# Altium schematic symbol library sch-ru.SchLib: 32 symbols
Pins are listed as number, name and electrical type; pins without a type are passive.

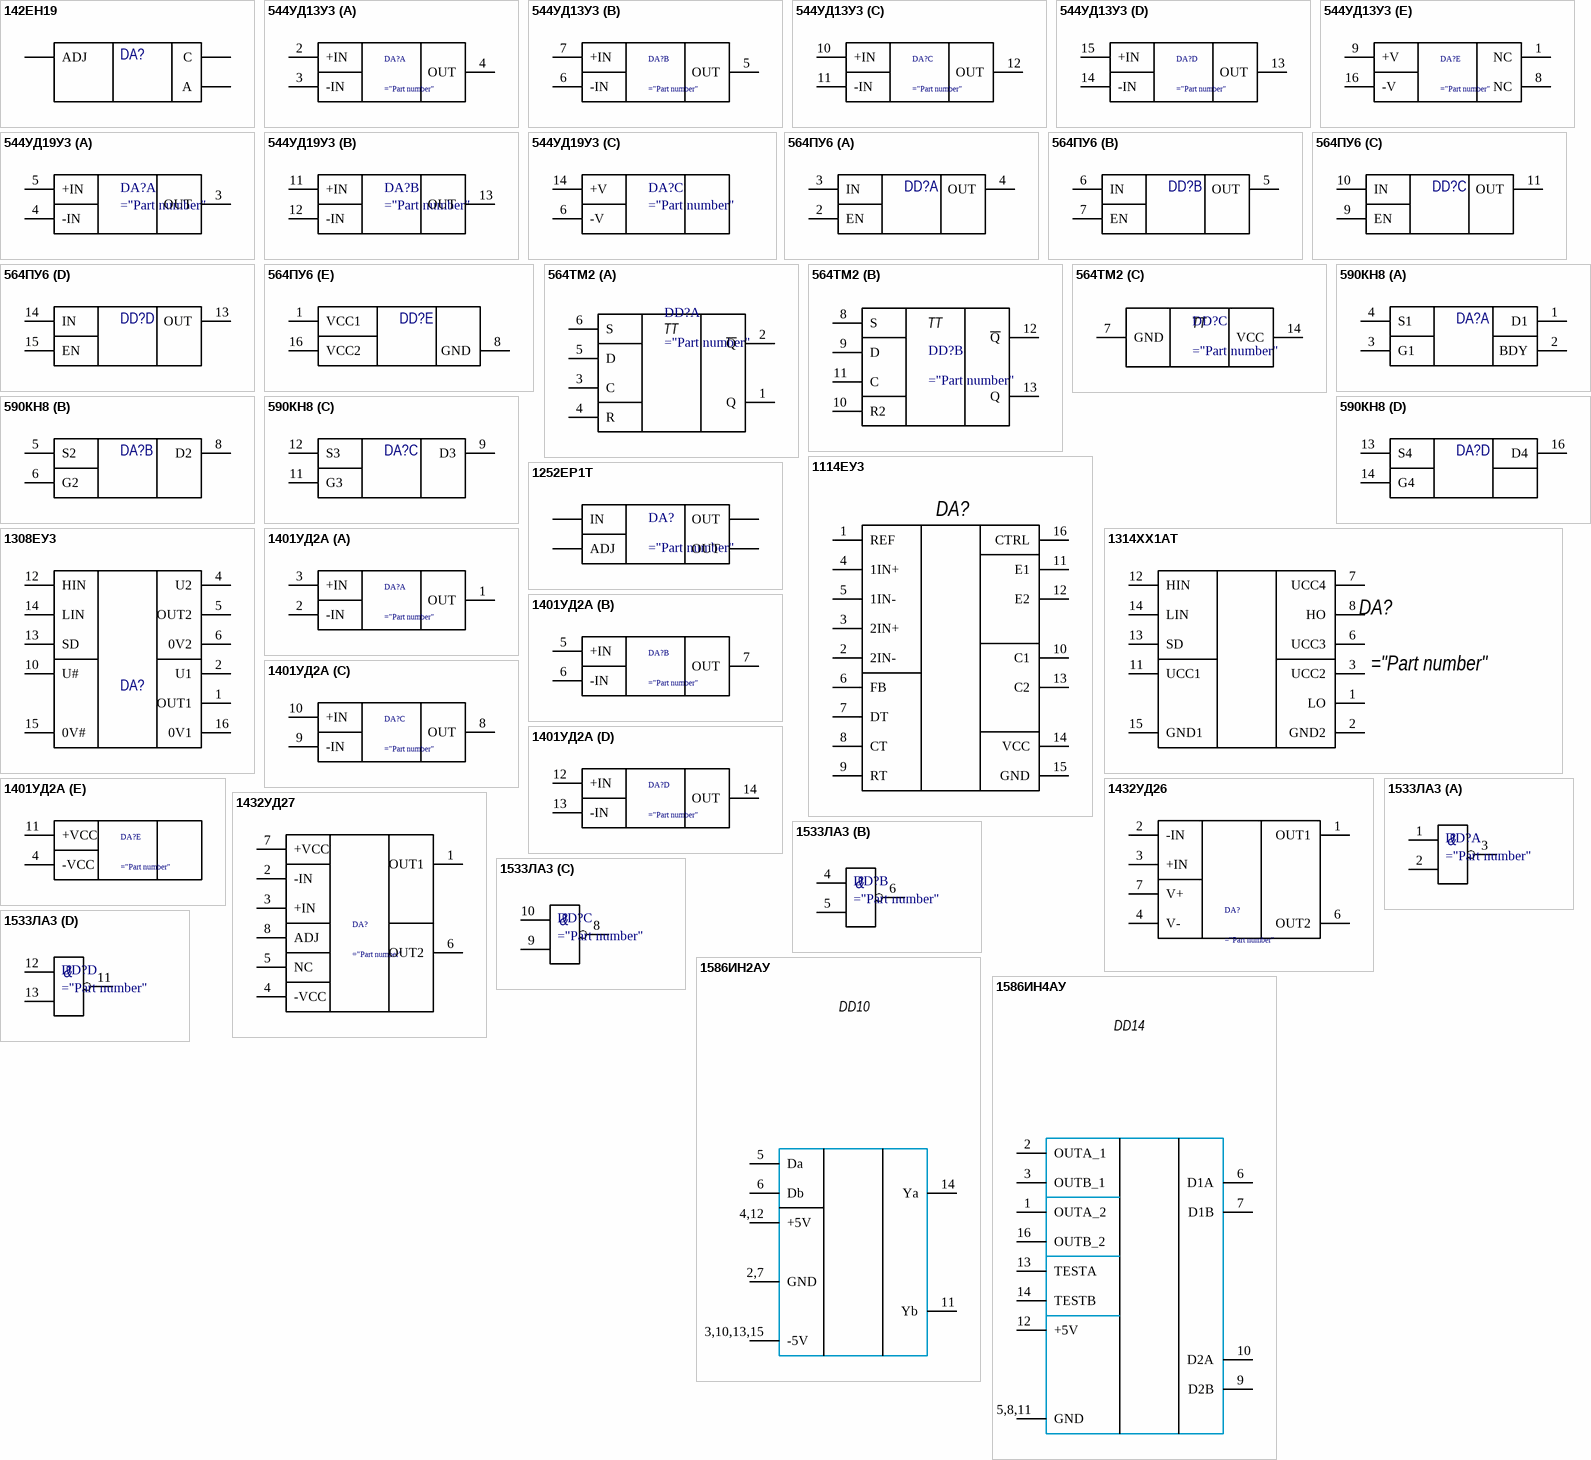
[diagram p0: symbols 142ЕН19 to 1586ИН4АУ]

## 142ЕН19
designator DA?
pins: A, ADJ, K C

## 544УД13У3
designator DA?
part A pins: 2 +IN, 3 -IN, 4 OUT
part B pins: 5 OUT, 6 -IN, 7 +IN
part C pins: 10 +IN, 11 -IN, 12 OUT
part D pins: 13 OUT, 14 -IN, 15 +IN
part E pins: 1 NC, 8 NC, 9 +V, 16 -V

## 544УД19У3
designator DA?
part A pins: 3 OUT, 4 -IN, 5 +IN
part B pins: 11 +IN, 12 -IN, 13 OUT
part C pins: 6 -V, 14 +V

## 564ПУ6
designator DD?
part A pins: 2 EN, 3 IN, 4 OUT
part B pins: 5 OUT, 6 IN, 7 EN
part C pins: 9 EN, 10 IN, 11 OUT
part D pins: 13 OUT, 14 IN, 15 EN
part E pins: 1 VCC1 , 8 GND, 16 VCC2 

## 564ТМ2
designator DD?
part A pins: 1 Q, 2 ~{Q}, 3 C, 4 R, 5 D, 6 S
part B pins: 8 S, 9 D, 10 R2, 11 C, 12 ~{Q}, 13 Q
part C pins: 7 GND, 14 VCC
part A text: TT
part B text: TT
part C text: TT

## 590КН8
designator DA?
part A pins: 1 D1, 2 BDY, 3 G1, 4 S1
part B pins: 5 S2, 6 G2, 8 D2
part C pins: 9 D3, 11 G3, 12 S3
part D pins: 13 S4, 14 G4, 16 D4

## 1114ЕУ3
designator DA?
pins: 1 REF, 2 2IN-, 3 2IN+, 4 1IN+, 5 1IN-, 6 FB, 7 DT, 8 CT, 9 RT, 10 C1, 11 E1, 12 E2, 13 C2, 14 VCC, 15 GND, 16 CTRL

## 1252ЕР1Т
designator DA?
pins: 2 IN, 8 OUT, 11 OUT, 17 ADJ

## 1308ЕУ3
designator DA?
pins: 1 OUT1, 2 U1, 4 U2, 5 OUT2, 6 0V2, 10 U#, 12 HIN, 13 SD, 14 LIN, 15 0V#, 16 0V1

## 1314ХХ1АТ
designator DA?
pins: 1 LO, 2 GND2, 3 UCC2, 6 UCC3, 7 UCC4, 8 HO, 11 UCC1, 12 HIN, 13 SD, 14 LIN, 15 GND1

## 1401УД2А
designator DA?
part A pins: 1 OUT, 2 -IN, 3 +IN
part B pins: 5 +IN, 6 -IN, 7 OUT
part C pins: 8 OUT, 9 -IN, 10 +IN
part D pins: 12 +IN, 13 -IN, 14 OUT
part E pins: 4 -VCC, 11 +VCC

## 1432УД26
designator DA?
pins: 1 OUT1, 2 -IN, 3 +IN, 4 V-, 6 OUT2, 7 V+

## 1432УД27
designator DA?
pins: 1 OUT1, 2 -IN, 3 +IN, 4 -VCC, 5 NC, 6 OUT2, 7 +VCC, 8 ADJ

## 1533ЛА3
designator DD?
part A pins: 1 IN1, 2 IN2, 3 IN3
part B pins: 4 IN1, 5 IN2, 6 IN3
part C pins: 8 IN3, 9 IN2, 10 IN1
part D pins: 7 GND (power) hidden to GND, 11 IN3, 12 IN1, 13 IN2, 14 VCC hidden to +5V
part A text: &
part B text: &
part C text: &
part D text: &

## 1586ИН2АУ
designator DD10
footprint 5119.16-А
pins: 2,7 GND, 3,10,13,15 -5V, 4,12 +5V, 5 Da, 6 Db, 11 Yb, 14 Ya

## 1586ИН4АУ
designator DD14
pins: 1 OUTA_2, 2 OUTA_1, 3 OUTB_1, 5,8,11 GND, 6 D1A, 7 D1B, 9 D2B, 10 D2A, 12 +5V, 13 TESTA, 14 TESTB, 16 OUTB_2

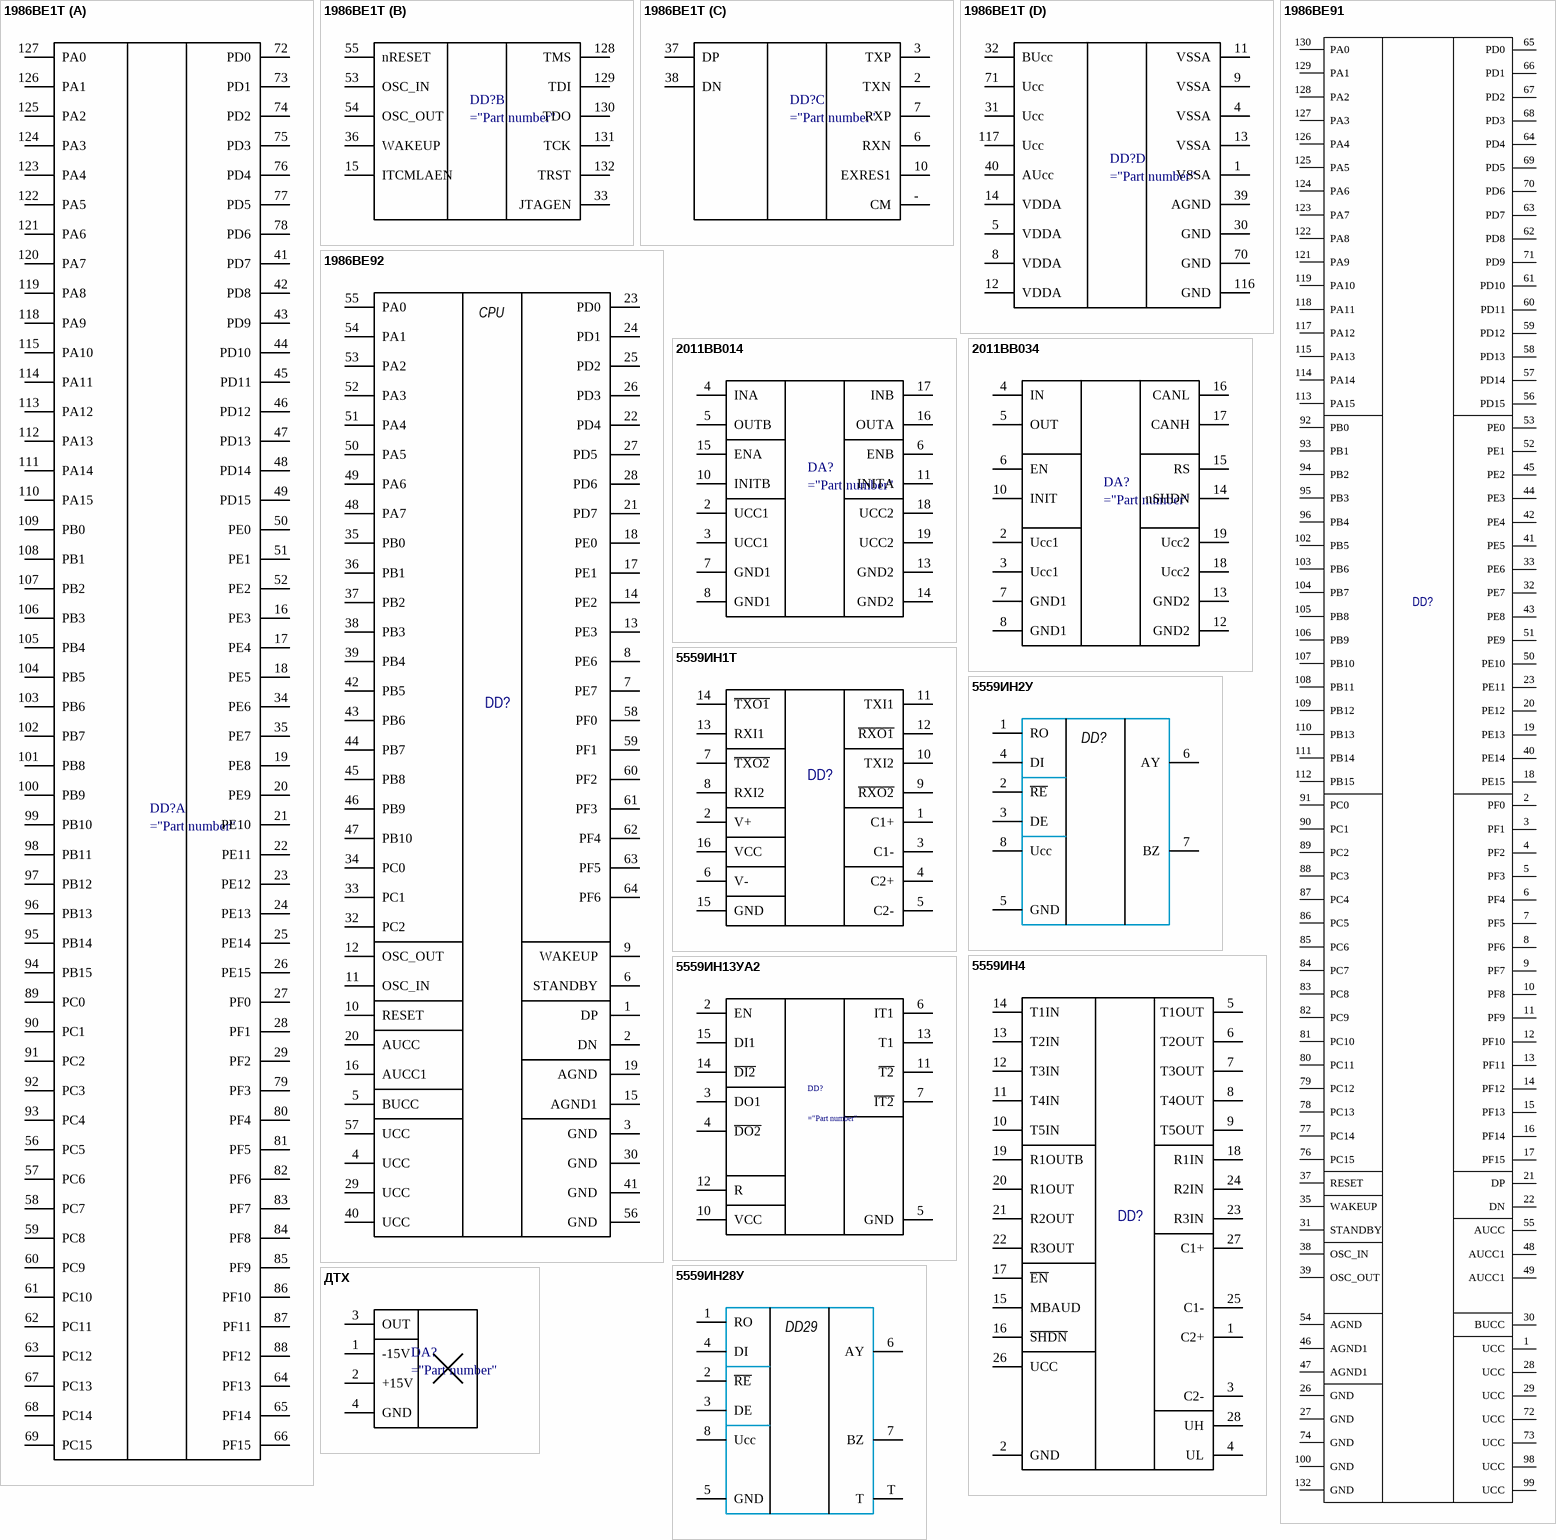
[diagram p1: symbols 1986ВЕ1Т to ДТХ]

## 1986ВЕ1Т
designator DD?
part A pins: 16 PE3, 17 PE4, 18 PE5, 19 PE8, 20 PE9, 21 PE10, 22 PE11, 23 PE12, 24 PE13, 25 PE14, 26 PE15, 27 PF0, 28 PF1, 29 PF2, 34 PE6, 35 PE7, 41 PD7, 42 PD8, 43 PD9, 44 PD10, 45 PD11, 46 PD12, 47 PD13, 48 PD14, 49 PD15, 50 PE0, 51 PE1, 52 PE2, 56 PC5, 57 PC6, 58 PC7, 59 PC8, 60 PC9, 61 PC10, 62 PC11, 63 PC12, 64 PF13, 65 PF14, 66 PF15, 67 PC13, 68 PC14, 69 PC15, 72 PD0, 73 PD1, 74 PD2, 75 PD3, 76 PD4, 77 PD5, 78 PD6, 79 PF3, 80 PF4, 81 PF5, 82 PF6, 83 PF7, 84 PF8, 85 PF9, 86 PF10, 87 PF11, 88 PF12, 89 PC0, 90 PC1, 91 PC2, 92 PC3, 93 PC4, 94 PB15, 95 PB14, 96 PB13, 97 PB12, 98 PB11, 99 PB10, 100 PB9, 101 PB8, 102 PB7, 103 PB6, 104 PB5, 105 PB4, 106 PB3, 107 PB2, 108 PB1, 109 PB0, 110 PA15, 111 PA14, 112 PA13, 113 PA12, 114 PA11, 115 PA10, 118 PA9, 119 PA8, 120 PA7, 121 PA6, 122 PA5, 123 PA4, 124 PA3, 125 PA2, 126 PA1, 127 PA0
part B pins: 15 ITCMLAEN, 33 JTAGEN, 36 WAKEUP, 53 OSC_IN, 54 OSC_OUT, 55 nRESET, 128 TMS, 129 TDI, 130 TDO, 131 TCK, 132 TRST
part C pins: 2 TXN, 3 TXP, 6 RXN, 7 RXP, 10 EXRES1, 37 DP, 38 DN, - CM
part D pins: 1 VSSA, 4 VSSA, 5 VDDA, 8 VDDA, 9 VSSA, 11 VSSA, 12 VDDA, 13 VSSA, 14 VDDA, 30 GND, 31 Ucc, 32 BUcc, 39 AGND, 40 AUcc, 70 GND, 71 Ucc, 116 GND, 117 Ucc
1 alternate drawing of the same symbol

## 1986ВЕ91
designator DD?
pins: 1 UCC, 2 PF0, 3 PF1, 4 PF2, 5 PF3, 6 PF4, 7 PF5, 8 PF6, 9 PF7, 10 PF8, 11 PF9, 12 PF10, 13 PF11, 14 PF12, 15 PF13, 16 PF14, 17 PF15, 18 PE15, 19 PE13, 20 PE12, 21 DP, 22 DN, 23 PE11, 26 GND, 27 GND, 28 UCC, 29 UCC, 30 BUCC, 31 STANDBY, 32 PE7, 33 PE6, 35 WAKEUP, 37 RESET, 38 OSC_IN, 39 OSC_OUT, 40 PE14, 41 PE5, 42 PE4, 43 PE8, 44 PE3, 45 PE2, 46 AGND1, 47 AGND1, 48 AUCC1, 49 AUCC1, 50 PE10, 51 PE9, 52 PE1, 53 PE0, 54 AGND, 55 AUCC, 56 PD15, 57 PD14, 58 PD13, 59 PD12, 60 PD11, 61 PD10, 62 PD8, 63 PD7, 64 PD4, 65 PD0, 66 PD1, 67 PD2, 68 PD3, 69 PD5, 70 PD6, 71 PD9, 72 UCC, 73 UCC, 74 GND, 76 PC15, 77 PC14, 78 PC13, 79 PC12, 80 PC11, 81 PC10, 82 PC9, 83 PC8, 84 PC7, 85 PC6, 86 PC5, 87 PC4, 88 PC3, 89 PC2, 90 PC1, 91 PC0, 92 PB0, 93 PB1, 94 PB2, 95 PB3, 96 PB4, 98 UCC, 99 UCC, 100 GND, 102 PB5, 103 PB6, 104 PB7, 105 PB8, 106 PB9, 107 PB10, 108 PB11, 109 PB12, 110 PB13, 111 PB14, 112 PB15, 113 PA15, 114 PA14, 115 PA13, 117 PA12, 118 PA11, 119 PA10, 121 PA9, 122 PA8, 123 PA7, 124 PA6, 125 PA5, 126 PA4, 127 PA3, 128 PA2, 129 PA1, 130 PA0, 132 GND

## 1986ВЕ92
designator DD?
pins: 1 DP , 2 DN , 3 GND , 4 UCC , 5 BUCC , 6 STANDBY , 7 PE7 , 8 PE6 , 9 WAKEUP , 10 RESET , 11 OSC_IN , 12 OSC_OUT , 13 PE3 , 14 PE2 , 15 AGND1 , 16 AUCC1 , 17 PE1 , 18 PE0 , 19 AGND , 20 AUCC , 21 PD7 , 22 PD4, 23 PD0, 24 PD1, 25 PD2, 26 PD3, 27 PD5 , 28 PD6 , 29 UCC , 30 GND , 32 PC2 , 33 PC1 , 34 PC0 , 35 PB0, 36 PB1, 37 PB2, 38 PB3, 39 PB4, 40 UCC , 41 GND , 42 PB5 , 43 PB6 , 44 PB7 , 45 PB8 , 46 PB9 , 47 PB10 , 48 PA7 , 49 PA6 , 50 PA5 , 51 PA4 , 52 PA3 , 53 PA2 , 54 PA1 , 55 PA0 , 56 GND , 57 UCC , 58 PF0 , 59 PF1 , 60 PF2 , 61 PF3 , 62 PF4, 63 PF5, 64 PF6
1 alternate drawing of the same symbol
text: CPU

## 2011BB014
designator DA?
pins: 2 UСС1, 3 UСС1, 4 INA, 5 OUTB, 6 ENB, 7 GND1, 8 GND1, 10 INITB, 11 INITA, 13 GND2, 14 GND2, 15 ENA, 16 OUTA, 17 INB, 18 UCC2, 19 UCC2

## 2011ВВ034
designator DA?
pins: 2 Ucc1, 3 Ucc1, 4 IN, 5 OUT, 6 EN, 7 GND1, 8 GND1, 10 INIT, 12 GND2, 13 GND2, 14 nSHDN, 15 RS, 16 CANL, 17 CANH, 18 Ucc2, 19 Ucc2

## 5559ИН1Т
designator DD?
pins: 1 C1+, 2 V+, 3 C1-, 4 C2+, 5 C2-, 6 V-, 7 ~{TXO2}, 8 RXI2, 9 ~{RXO2}, 10 TXI2, 11 TXI1, 12 ~{RXO1}, 13 RXI1, 14 ~{TXO1}, 15 GND, 16 VCC

## 5559ИН2У
designator DD?
pins: 1 RO, 2 ~{RE}, 3 DE, 4 DI, 5 GND, 6 AY, 7 BZ, 8 Ucc

## 5559ИН4
designator DD?
pins: 1 С2+, 2 GND, 3 С2-, 4 UL, 5 Т1OUT, 6 T2OUT, 7 T3OUT, 8 T4OUT, 9 T5OUT, 10 T5IN, 11 T4IN, 12 T3IN, 13 T2IN, 14 T1IN, 15 MBAUD, 16 ~{SHDN}, 17 ~{EN}, 18 R1IN, 19 R1OUTB, 20 R1OUT, 21 R2OUT, 22 R3OUT, 23 R3IN, 24 R2IN, 25 C1-, 26 UСС, 27 C1+, 28 UH

## 5559ИН13УА2
designator DD?
pins: 2 EN, 3 DO1, 4 ~{DO2}, 5 GND, 6 IT1, 7 ~{IT2}, 10 VCC, 11 ~{T2}, 12 R, 13 T1, 14 ~{DI2}, 15 DI1

## 5559ИН28У
designator DD29
pins: 1 RO, 2 ~{RE}, 3 DE, 4 DI, 5 GND, 6 AY, 7 BZ, 8 Ucc, T

## ДТХ
designator DA?
pins: 1 -15V, 2 +15V, 3 OUT, 4 GND

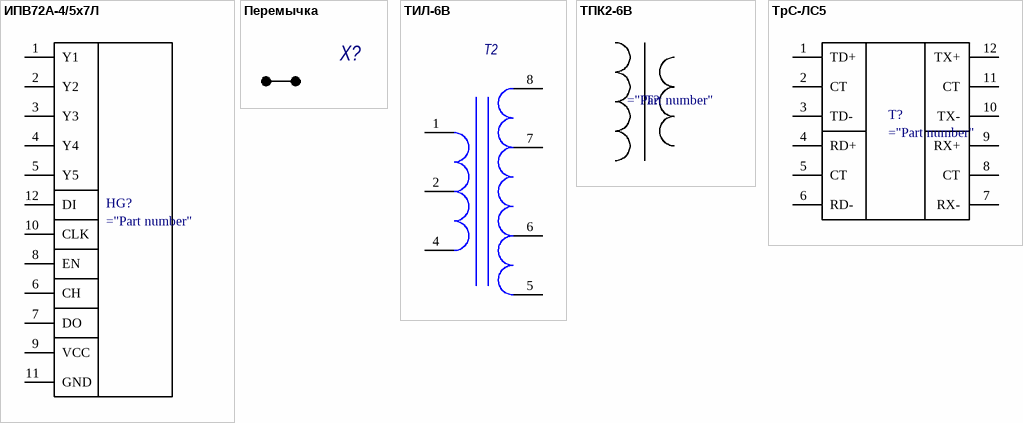
[diagram p2: symbols ИПВ72А-4/5х7Л to ТрС-ЛС5]

## ИПВ72А-4/5х7Л
designator HG?
pins: 1 Y1, 2 Y2, 3 Y3, 4 Y4, 5 Y5, 6 CH, 7 DO, 8 EN, 9 VCC, 10 CLK, 11 GND, 12 DI

## Перемычка
designator X?  (no BOM)
pins: 1, 2

## ТИЛ-6В
designator T2
pins: 1, 2, 4, 5, 6, 7, 8

## ТПК2-6В
designator T?
pins: 1, 5, 7, 9

## ТрС-ЛС5
designator T?
pins: 1 TD+, 2 CT, 3 TD-, 4 RD+, 5 CT, 6 RD-, 7 RX-, 8 CT, 9 RX+, 10 TX-, 11 CT, 12 TX+